# EAGLE library part LM2574 (library stabilizatory)
VOLTAGE REGULATOR
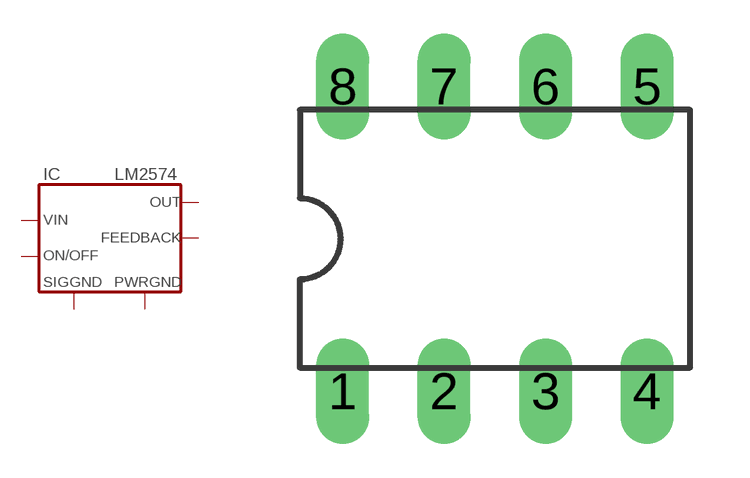
[diagram p7: symbol with the pads of DIP8; footprint DIP8]

Designator prefix IC

## LM2574  [DIP8]
1  FEEDBACK  pas
2  SIGGND  in
3  ON/OFF  in
4  PWRGND  in
5  VIN  in
7  OUT  pas

## Footprint DIP8 (pad centres in mm)
drill 0.813 long: 1 -3.81,-3.81; 2 -1.27,-3.81; 3 1.27,-3.81; 4 3.81,-3.81; 5 3.81,3.81; 6 1.27,3.81; 7 -1.27,3.81; 8 -3.81,3.81